# Altium integrated library ST Logic Multiplexer.IntLib: 121 symbols (part 3 of 3)
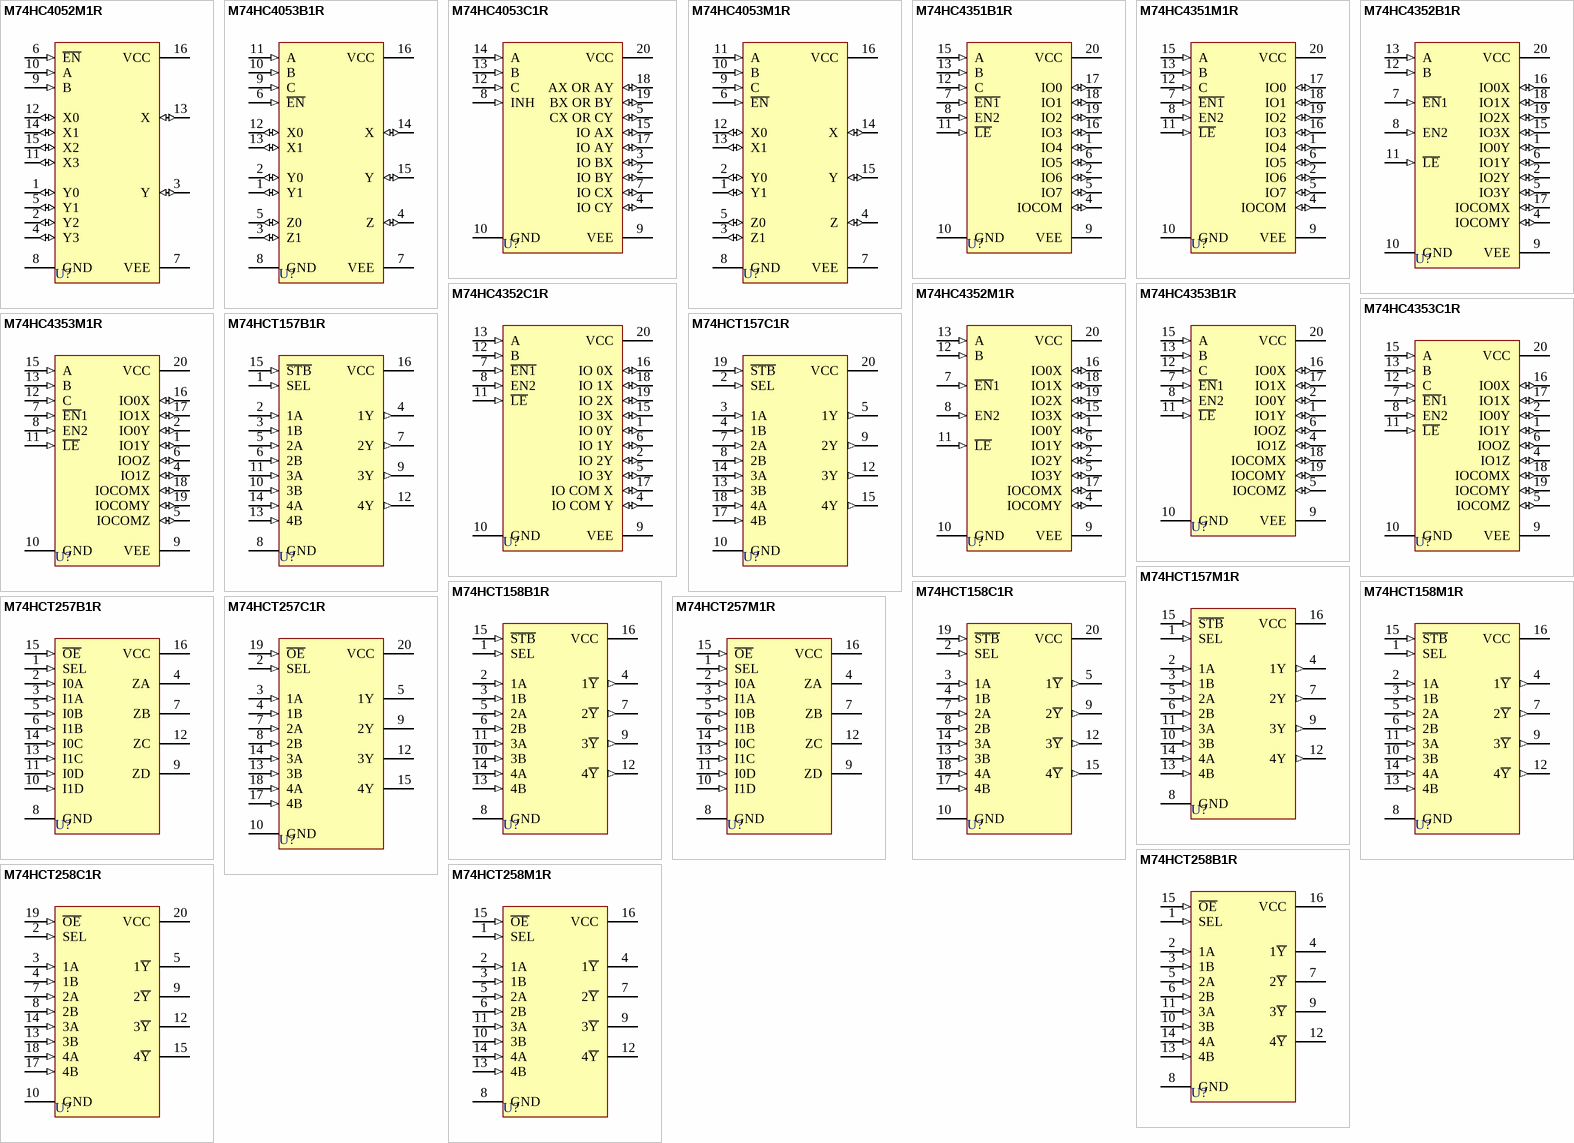
[diagram p5: symbols M74HC4052M1R to M74HCT258M1R]

## M74HCT258M1R
designator U?
Quad 2-Channel Multiplexer (3-State, Inverting); Published: 8-Jun-2000; LatestRevisionDate: 6-Jun-2005; LatestRevisionNote: Stylized 3D Model Added.; DatasheetDocument: Feb-1993; PackageDocument: May-1998; PackageReference: SO16; Publisher: Altium Limited; ComponentLink1Description: Manufacturer Link; ComponentLink1URL: http://www.st.com/
footprint SO16 (Small Outline; 16 Leads; Body Width 3.9 mm; Pitch 1.27 mm)
3D model SO16 (Small Outline; 16 Leads; Body Width 3.9 mm; Pitch 1.27 mm)
signal-integrity model M74HCT258M1R
pins: 1 SEL (in), 2 1A (in), 3 1B (in), 4 1~{Y} (hiz), 5 2A (in), 6 2B (in), 7 2~{Y} (hiz), 8 GND (power), 9 3~{Y} (hiz), 10 3B (in), 11 3A (in), 12 4~{Y} (hiz), 13 4B (in), 14 4A (in), 15 ~{OE} (in), 16 VCC (power)